# Altium schematic symbol library GOST_2.737_Ustrojstva Svyazi.SchLib: 39 symbols
Pins are listed as number, name and electrical type; pins without a type are passive.

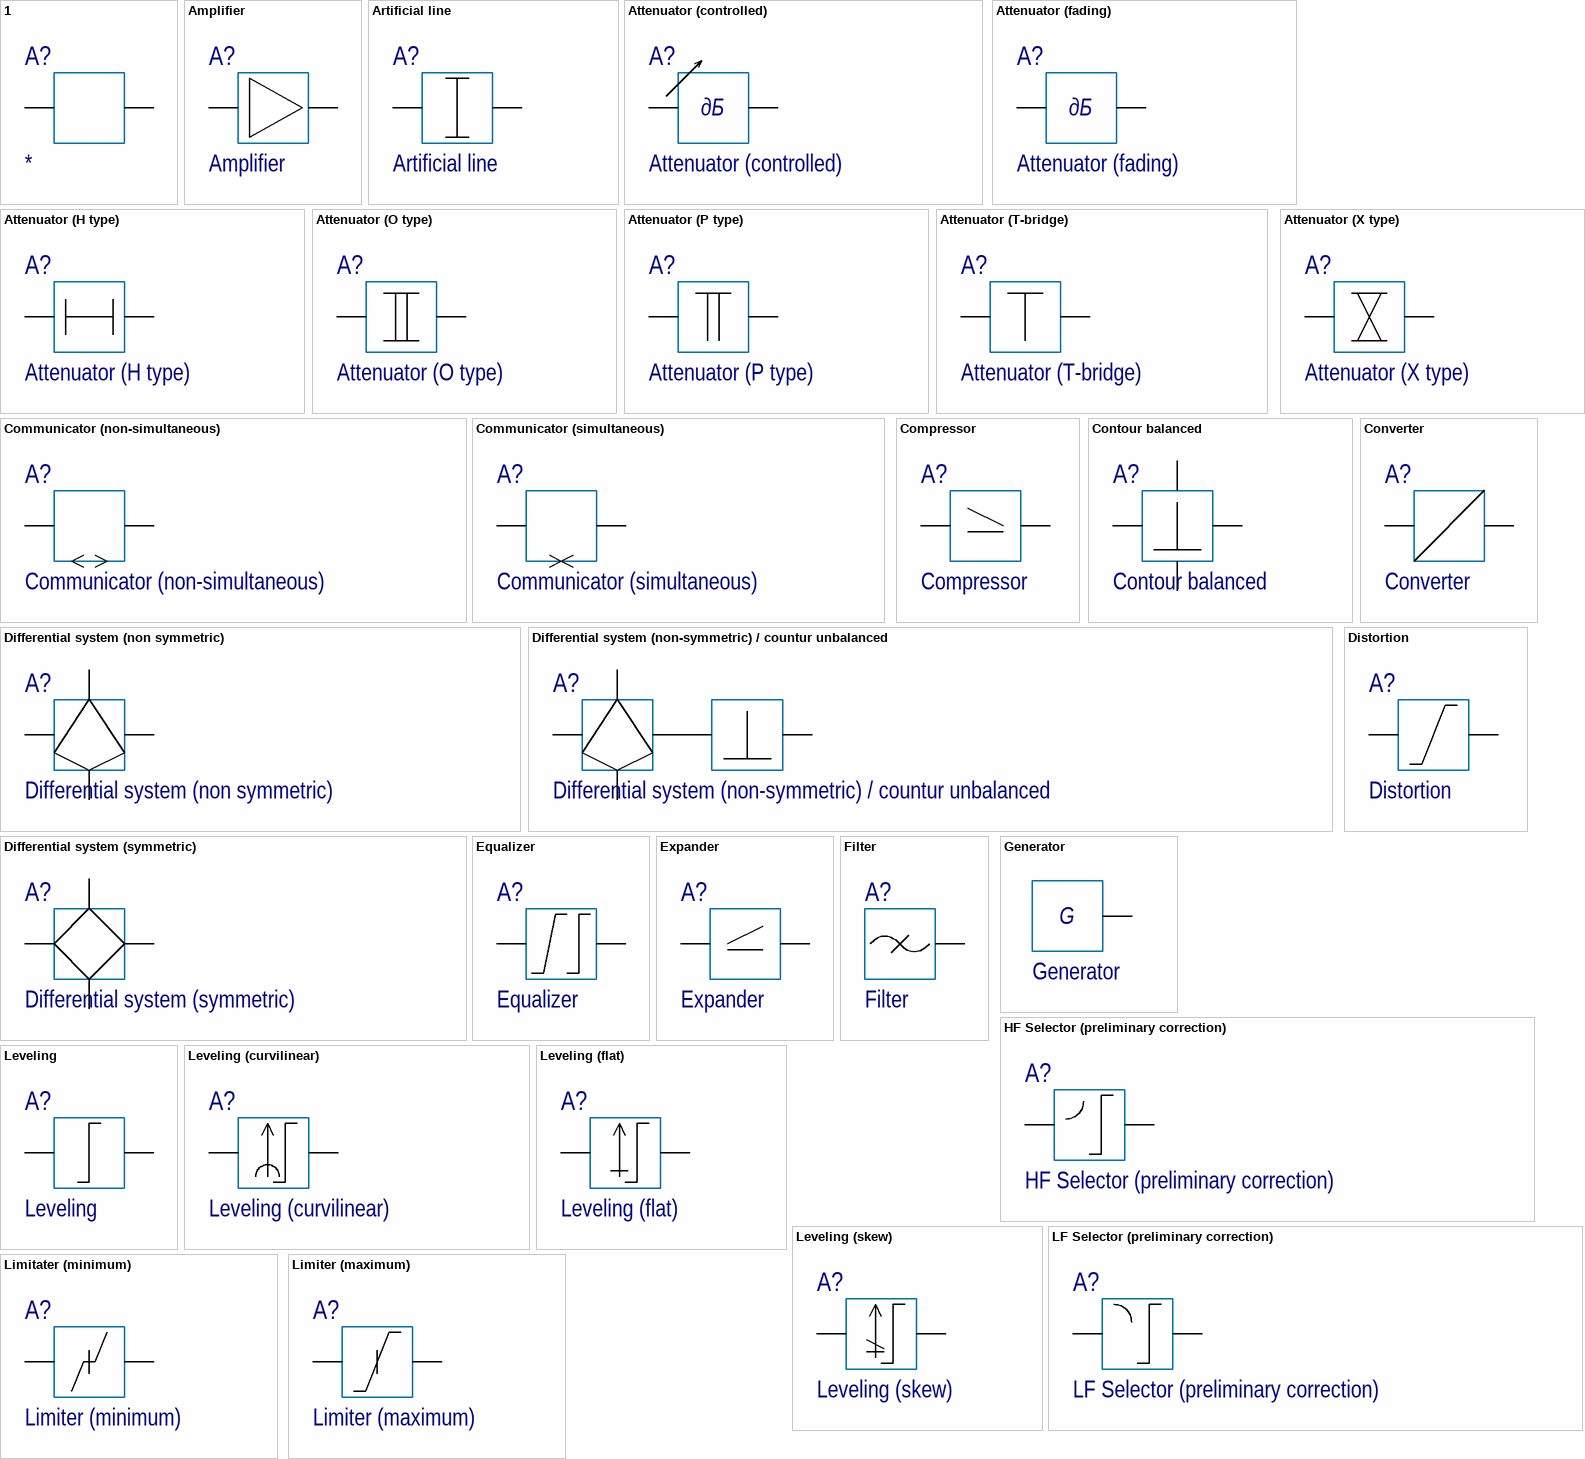
[diagram p0: symbols 1 to Limiter (maximum)]

## 1
designator A?  (graphical)
Шаблон для функций
pins: 1, 2

## Amplifier
designator A?  (graphical)
Усилитель
pins: 1, 2
1 alternate drawing of the same symbol

## Artificial line
designator A?  (graphical)
Искусственная линия
pins: 1, 2

## Attenuator (controlled)
designator A?  (graphical)
Аттенюатор с регулируемым затуханием
pins: 1, 2
text: дБ

## Attenuator (fading)
designator A?  (graphical)
Аттенюатор с постоянным затуханием
pins: 1, 2
text: дБ

## Attenuator (H type)
designator A?  (graphical)
Аттенюатор симметричный типа H
pins: 1, 2

## Attenuator (O type)
designator A?  (graphical)
Аттенюатор симметричный типа О
pins: 1, 2

## Attenuator (P type)
designator A?  (graphical)
Аттенюатор несимметричный типа П
pins: 1, 2

## Attenuator (T-bridge)
designator A?  (graphical)
Аттенюатор несимметричный типа Т
pins: 1, 2

## Attenuator (X type)
designator A?  (graphical)
Аттенюатор симметричный типа X
pins: 1, 2

## Communicator (non-simultaneous)
designator A?  (graphical)
Устройство приёмно-передающее неодновременного действия
pins: 1, 2

## Communicator (simultaneous)
designator A?  (graphical)
Устройство приёмно-передающее одновременного действия
pins: 1, 2

## Compressor
designator A?  (graphical)
Сжиматель
pins: 1, 2

## Contour balanced
designator A?  (graphical)
Контур балансный
pins: 1, 2, 3, 4
1 alternate drawing of the same symbol

## Converter
designator A?  (graphical)
Преобразователь
pins: 1, 2

## Differential system (non symmetric)
designator A?  (graphical)
Система дифференциальная несимметричная
pins: 1, 2, 3, 4

## Differential system (non-symmetric) / countur unbalanced
designator A?  (graphical)
Система дифференциальная несимметричная с балансным контуром
pins: 2, 2, 3, 4

## Differential system (symmetric)
designator A?  (graphical)
Система дифференциальная симметричная
pins: 1, 2, 3, 4

## Distortion
designator A?  (graphical)
Искажение
pins: 1, 2

## Equalizer
designator A?  (graphical)
Выравниватель
pins: 1, 2

## Expander
designator A?  (graphical)
Расширитель
pins: 1, 2

## Filter
designator A?  (graphical)
Фильтр
pins: 1

## Generator
designator ?  (graphical)
Генератор
pins: 1
text: G

## HF Selector (preliminary correction)
designator A?  (graphical)
Выравниватель с выделением высоких частот (предварительная коррекция)
pins: 1, 2

## Leveling
designator A?  (graphical)
Выравнивание, коррекция искажения
pins: 1, 2

## Leveling (curvilinear)
designator A?  (graphical)
Выравнивание (коррекция) криволинейное
pins: 1, 2

## Leveling (flat)
designator A?  (graphical)
Выравнивание (коррекция) плоское
pins: 1, 2

## Leveling (skew)
designator A?  (graphical)
Выравнивание (коррекция) наклонное
pins: 1, 2

## LF Selector (preliminary correction)
designator A?  (graphical)
Выравниватель с ослаблением высоких частот (предварительная коррекция)
pins: 1, 2

## Limitater (minimum)
designator A?, comment Limiter (minimum)  (graphical)
Ограничитель минимума
pins: 1, 2

## Limiter (maximum)
designator A?  (graphical)
Ограничитель максимума
pins: 1, 2

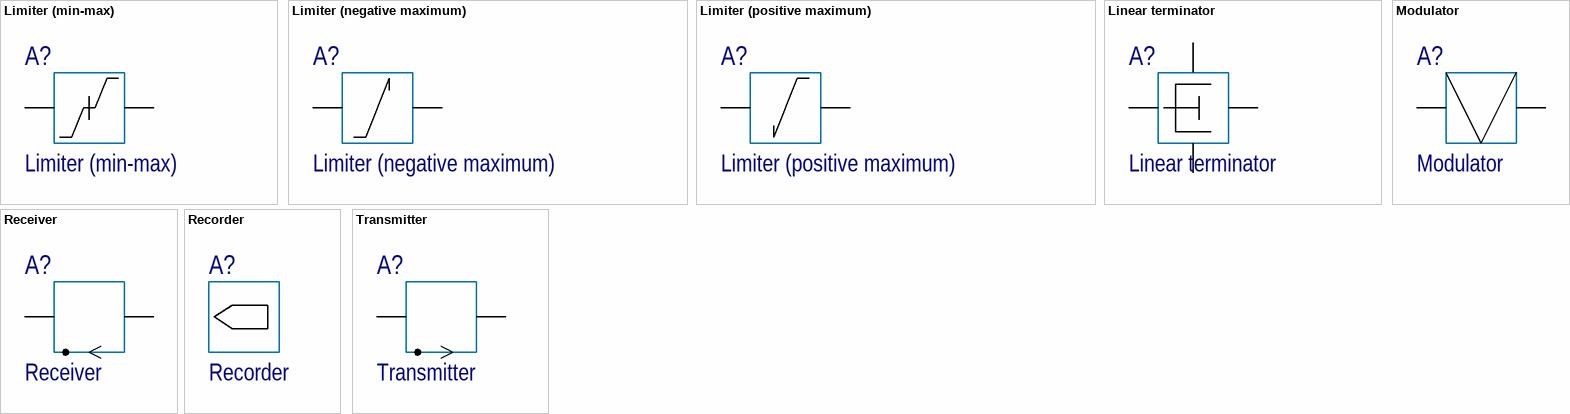
[diagram p1: symbols Limiter (min-max) to Transmitter]

## Limiter (min-max)
designator A?  (graphical)
Ограничитель максимума и минимума
pins: 1, 2

## Limiter (negative maximum)
designator A?  (graphical)
Ограничитель отрицательного максимума
pins: 1, 2

## Limiter (positive maximum)
designator A?  (graphical)
Ограничитель положительного максимума
pins: 1, 2

## Linear terminator
designator A?
Устройство линейное оконечное
pins: 1, 2, 3, 4

## Modulator
designator A?  (graphical)
Модулятор, демодулятор, дискриминатор
pins: 1, 2
1 alternate drawing of the same symbol

## Receiver
designator A?  (graphical)
Устройство приёмное
pins: 1, 2

## Recorder
designator A?  (graphical)
Устройство записывающее или воспроизводящее

## Transmitter
designator A?  (graphical)
Устройство передающее
pins: 1, 2